# Altium schematic symbol library Capacitors.SchLib: 4 symbols
Pins are listed as number, name and electrical type; pins without a type are passive.

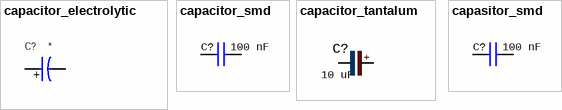
[diagram p0: symbols capacitor_electrolytic to capasitor_smd]

## capacitor_electrolytic
designator C?
Voltage: *; Tolerance: *; Value: *
footprint capacitor_electrolit_8mm
footprint capacitor_electrolit_10mm
footprint capacitor_electrolit_5mm
pins: 1, 2
text: +

## capacitor_smd
designator C?, comment value 100 nF  (hidden comment: Capacitor)
Voltage: 10V; Tolerance: ±20%; Dielectric: X5R/X7R; Package: 0402
footprint 0402_CAPASITOR (Resistor\Capasitor)
footprint 0603_CAPASITOR (Resistor\Capasitor)
footprint 0805_CAPASITOR (Resistor\Capasitor)
footprint 1206_CAPASITOR (Resistor\Capasitor)
footprint 1210_CAPASITOR (Resistor\Capasitor)
pins: 1, 2

## capacitor_tantalum
designator C?, comment value 10 uF  (hidden comment: Capacitor Tantalum)
10 ÂµF Molded Tantalum Capacitors 16 V 1206 (3216 Metric) 3Ohm; Dimentions: 3.2x1.6 mm; Tolerance: ±20%; Voltage: 6V; Package: 1206; Dielectric: Tantalum
footprint CAPC3216X110N (Case A / 1206)
pins: 1, 2
text: +

## capasitor_smd
designator C?, comment value 100 nF  (hidden comment: Capasitor)
TODO delete this / wrong name capaSitor; Tolerance: ±20%; Dielectric: X5R/X7R; Voltage: *; Package: 0402
footprint 0402_CAPASITOR (Resistor\Capasitor)
footprint 0603_CAPASITOR (Resistor\Capasitor)
footprint 0805_CAPASITOR (Resistor\Capasitor)
footprint 1206_CAPASITOR (Resistor\Capasitor)
footprint 1210_CAPASITOR (Resistor\Capasitor)
pins: 1, 2